# EAGLE library part PMDXB950UPEL (library fets)
20 V 500mA, dual P-channel Trench MOSFET
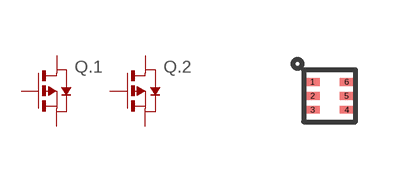
[diagram p2: symbol with the pads of XDFN-6; footprint XDFN-6]

Designator prefix Q; gates .1=P_MOSFET .2=P_MOSFET

## PMDXB950UPEL (DIGIKEY: 1727-2601-1-ND; MANUFACTURER: NEXPERIA; MPN: PMDXB950UPELZ)  [XDFN-6]
1  .1:S  pas
2  .1:G  pas
3  .2:D  pas
4  .2:S  pas
5  .2:G  pas
6  .1:D  pas

## Footprint XDFN-6 (pad centres in mm)
smd 0.35 x 0.2: 1 -0.425,0.35; 2 -0.425,0; 3 -0.425,-0.35; 4 0.425,-0.35; 5 0.425,0; 6 0.425,0.35